# Altium schematic symbol library LM5164DDAR.SchLib: 1 symbol
Pins are listed as number, name and electrical type; pins without a type are passive.

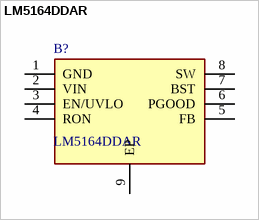
[diagram p0: symbol LM5164DDAR]

## LM5164DDAR
designator B?
Texas Instruments 6-V to 100-V Input, 1-A Synchronous Buck DC-DC Converter With Ultra-Low IQ 8-SO PowerPAD -40 to 150; Geometry.Height: 1.7mm; Mouser Part Number: 595-LM5164DDAR; Mouser Price/Stock: https://www.mouser.co.uk/ProductDetail/Texas-Instruments/LM5164DDAR?qs=PqoDHHvF64%2F0M%252BK9zcb2mw%3D%3D; Manufacturer_Name: Texas Instruments; Manufacturer_Part_Number: LM5164DDAR; Datasheet Link: http://www.ti.com/lit/ds/symlink/lm5164.pdf
footprint SOIC127P600X170-9N
pins: 1 GND, 2 VIN, 3 EN/UVLO, 4 RON, 5 FB, 6 PGOOD, 7 BST, 8 SW, 9 EP